# Altium schematic symbol library U_78Mxx_DPAK.SchLib: 1 symbol
Pins are listed as number, name and electrical type; pins without a type are passive.

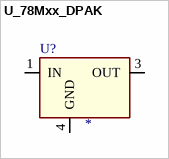
[diagram p0: symbol U_78Mxx_DPAK]

## U_78Mxx_DPAK
designator U?
pins: 1 IN, 3 OUT, 4 GND